# Altium schematic symbol library kylieparts.SchLib: 4 symbols
Pins are listed as number, name and electrical type; pins without a type are passive.

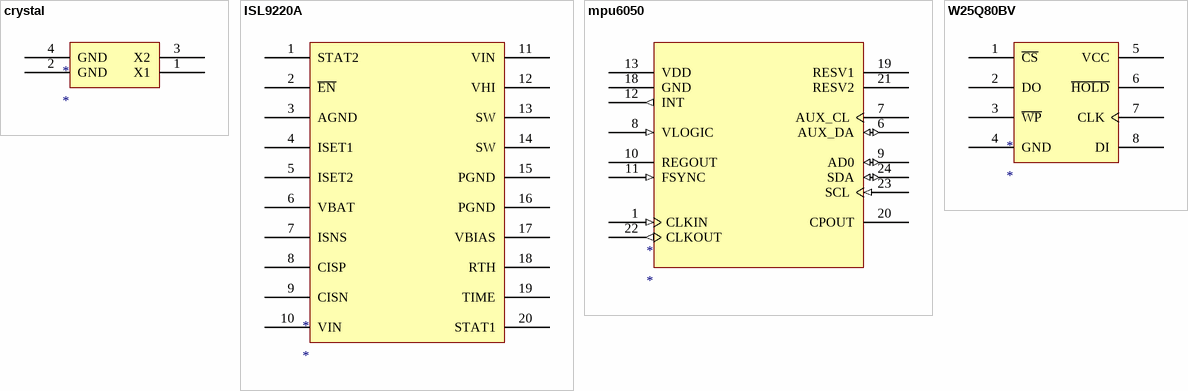
[diagram p0: symbols crystal to W25Q80BV]

## crystal
designator *
footprint 2SMX-3SMXB (Quartz Crystal, SM; Body 6.0 x 3.5 mm (LxW))
pins: 1 X1, 2 GND, 3 X2, 4 GND

## ISL9220A
designator *
footprint T2044+3_L (QFN, 20-Leads, Body 4x4mm, Pitch 0.5mm, Thermal Pad 2.1x2.1mm, IPC High Density)
pins: 1 STAT2, 2 ~{EN}, 3 AGND, 4 ISET1, 5 ISET2, 6 VBAT, 7 ISNS, 8 CISP, 9 CISN, 10 VIN, 11 VIN, 12 VHI, 13 SW, 14 SW, 15 PGND, 16 PGND, 17 VBIAS, 18 RTH, 19 TIME, 20 STAT1

## mpu6050
designator *
footprint QFN-24_N (QFN, 24-Leads, Body 4x4mm, Pitch 0.5mm, Thermal Pad 2.7x2.7mm, IPC Medium Density)
pins: 1 CLKIN (in), 6 AUX_DA (io), 7 AUX_CL, 8 VLOGIC (in), 9 AD0 (io), 10 REGOUT, 11 FSYNC (in), 12 INT (out), 13 VDD (power), 18 GND (power), 19 RESV1, 20 CPOUT, 21 RESV2, 22 CLKOUT (out), 23 SCL (in), 24 SDA (io)

## W25Q80BV
designator *
footprint D8_N (SOIC, 8-Leads, Body 4.9x3.9mm, Pitch 1.27mm, IPC Medium Density)
pins: 1 ~{CS}, 2 DO, 3 ~{WP}, 4 GND, 5 VCC, 6 ~{HOLD}, 7 CLK, 8 DI